# Altium schematic symbol library AltiumTsurkov.SchLib: 13 symbols
Pins are listed as number, name and electrical type; pins without a type are passive.

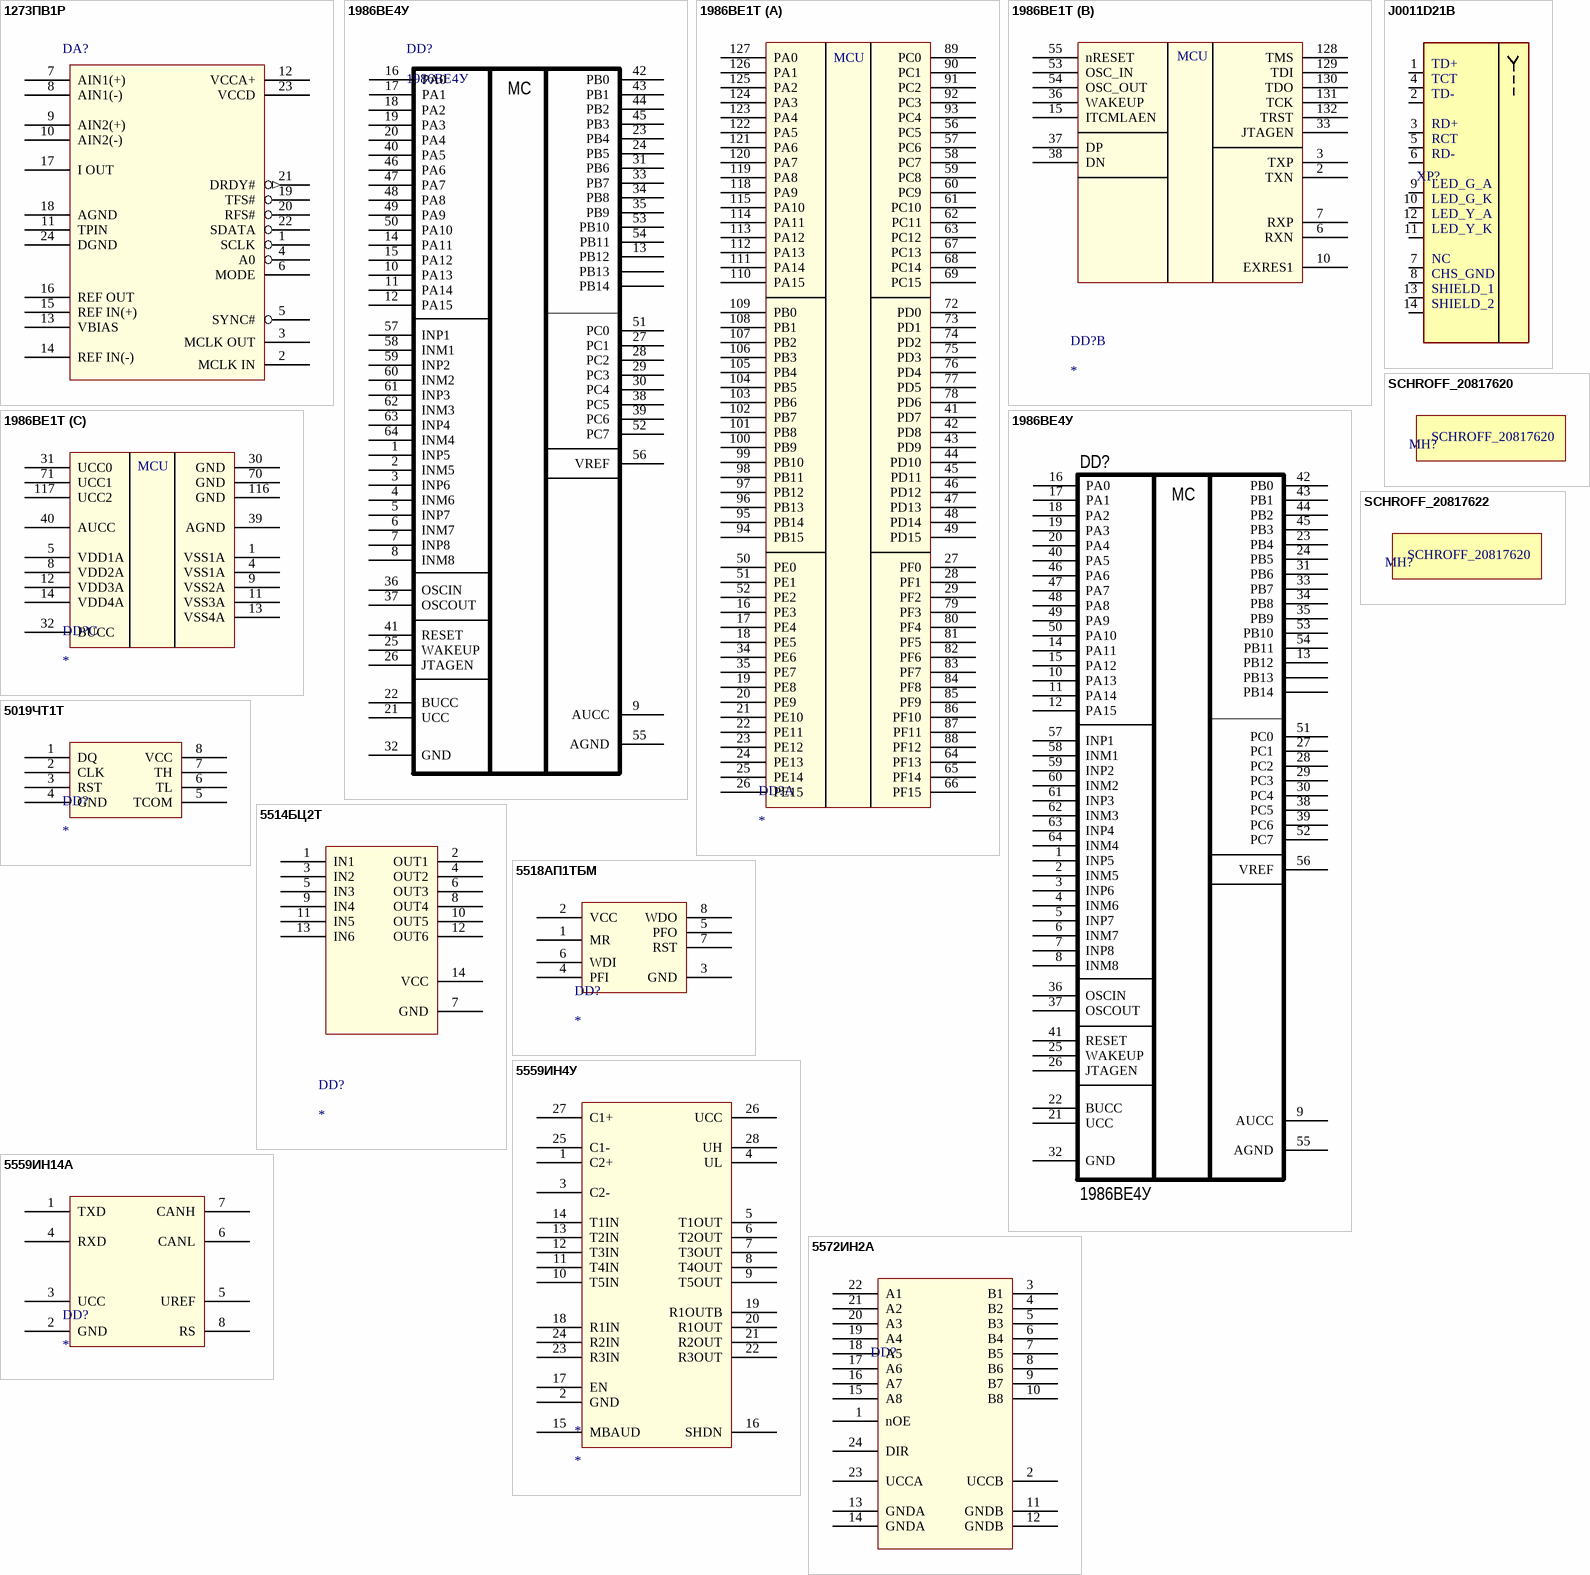
[diagram p0: symbols 1273ПВ1Р to SCHROFF_20817622]

## 1273ПВ1Р
designator DA?, comment DA?  (value not drawn)
1273ПВ1Р
footprint DIP24
pins: 1 SCLK, 2 MCLK IN, 3 MCLK OUT, 4 A0, 5 SYNC#, 6 MODE, 7 AIN1(+), 8 AIN1(-), 9 AIN2(+), 10 AIN2(-), 11 TPIN, 12 VCCA+, 13 VBIAS, 14 REF IN(-), 15 REF IN(+), 16 REF OUT, 17 I OUT, 18 AGND, 19 TFS#, 20 RFS#, 21 DRDY# (out), 22 SDATA, 23 VCCD, 24 DGND

## 1986ВE4У
designator DD?
pins: 1 INP5, 2 INM5, 3 INP6, 4 INM6, 5 INP7, 6 INM7, 7 INP8, 8 INM8, 9 AUCC, 10 PA13, 11 PA14, 12 PA15, 13 PB12, 14 PA11, 15 PA12, 16 PA0, 17 PA1, 18 PA2, 19 PA3, 20 PA4, 21 UCC, 22 BUCC, 23 PB4, 24 PB5, 25 WAKEUP, 26 JTAGEN, 27 PC1, 28 PC2, 29 PC3, 30 PC4, 31 PB6, 32 GND, 33 PB7, 34 PB8, 35 PB9, 36 OSCIN, 37 OSCOUT, 38 PC5, 39 PC6, 40 PA5, 41 RESET, 42 PB0, 43 PB1, 44 PB2, 45 PB3, 46 PA6, 47 PA7, 48 PA8, 49 PA9, 50 PA10, 51 PC0, 52 PC7, 53 PB10, 54 PB11, 55 AGND, 56 VREF, 57 INP1, 58 INM1, 59 INP2, 60 INM2, 61 INP3, 62 INM3, 63 INP4, 64 INM4, ?1 PB13, ?2 PB14
text: MC

## 1986ВЕ1Т
designator DD?
1986ВЕ1Т
footprint 4229_132_3
part A pins: 16 PE3, 17 PE4, 18 PE5, 19 PE8, 20 PE9, 21 PE10, 22 PE11, 23 PE12, 24 PE13, 25 PE14, 26 PE15, 27 PF0, 28 PF1, 29 PF2, 34 PE6, 35 PE7, 41 PD7, 42 PD8, 43 PD9, 44 PD10, 45 PD11, 46 PD12, 47 PD13, 48 PD14, 49 PD15, 50 PE0, 51 PE1, 52 PE2, 56 PC5, 57 PC6, 58 PC7, 59 PC8, 60 PC9, 61 PC10, 62 PC11, 63 PC12, 64 PF13, 65 PF14, 66 PF15, 67 PC13, 68 PC14, 69 PC15, 72 PD0, 73 PD1, 74 PD2, 75 PD3, 76 PD4, 77 PD5, 78 PD6, 79 PF3, 80 PF4, 81 PF5, 82 PF6, 83 PF7, 84 PF8, 85 PF9, 86 PF10, 87 PF11, 88 PF12, 89 PC0, 90 PC1, 91 PC2, 92 PC3, 93 PC4, 94 PB15, 95 PB14, 96 PB13, 97 PB12, 98 PB11, 99 PB10, 100 PB9, 101 PB8, 102 PB7, 103 PB6, 104 PB5, 105 PB4, 106 PB3, 107 PB2, 108 PB1, 109 PB0, 110 PA15, 111 PA14, 112 PA13, 113 PA12, 114 PA11, 115 PA10, 118 PA9, 119 PA8, 120 PA7, 121 PA6, 122 PA5, 123 PA4, 124 PA3, 125 PA2, 126 PA1, 127 PA0
part B pins: 2 TXN, 3 TXP, 6 RXN, 7 RXP, 10 EXRES1, 15 ITCMLAEN, 33 JTAGEN, 36 WAKEUP, 37 DP, 38 DN, 53 OSC_IN, 54 OSC_OUT, 55 nRESET, 128 TMS, 129 TDI, 130 TDO, 131 TCK, 132 TRST
part C pins: 1 VSS1A, 4 VSS1A, 5 VDD1A, 8 VDD2A, 9 VSS2A, 11 VSS3A, 12 VDD3A, 13 VSS4A, 14 VDD4A, 30 GND, 31 UCC0, 32 BUCC, 39 AGND, 40 AUCC, 70 GND, 71 UCC1, 116 GND, 117 UCC2
part A text: MCU
part B text: MCU
part C text: MCU

## 1986ВЕ4У
designator DD?
pins: 1 INP5, 2 INM5, 3 INP6, 4 INM6, 5 INP7, 6 INM7, 7 INP8, 8 INM8, 9 AUCC, 10 PA13, 11 PA14, 12 PA15, 13 PB12, 14 PA11, 15 PA12, 16 PA0, 17 PA1, 18 PA2, 19 PA3, 20 PA4, 21 UCC, 22 BUCC, 23 PB4, 24 PB5, 25 WAKEUP, 26 JTAGEN, 27 PC1, 28 PC2, 29 PC3, 30 PC4, 31 PB6, 32 GND, 33 PB7, 34 PB8, 35 PB9, 36 OSCIN, 37 OSCOUT, 38 PC5, 39 PC6, 40 PA5, 41 RESET, 42 PB0, 43 PB1, 44 PB2, 45 PB3, 46 PA6, 47 PA7, 48 PA8, 49 PA9, 50 PA10, 51 PC0, 52 PC7, 53 PB10, 54 PB11, 55 AGND, 56 VREF, 57 INP1, 58 INM1, 59 INP2, 60 INM2, 61 INP3, 62 INM3, 63 INP4, 64 INM4, ?1 PB13, ?2 PB14
text: MC

## 5019ЧТ1Т
designator DD?
footprint DIP8
pins: 1 DQ, 2 CLK, 3 RST, 4 GND, 5 TCOM, 6 TL, 7 TH, 8 VCC

## 5514БЦ2Т
designator DD?
footprint 401.14-15 (CFP, 14-Leads, Body 7,4x5,1mm (max), Pitch 1,27mm, IPC Medium Density)
pins: 1 IN1, 2 OUT1, 3 IN2, 4 OUT2, 5 IN3, 6 OUT3, 7 GND, 8 OUT4, 9 IN4, 10 OUT5, 11 IN5, 12 OUT6, 13 IN6, 14 VCC

## 5518АП1ТБМ
designator DD?
pins: 1 MR, 2 VCC, 3 GND, 4 PFI, 5 PFO, 6 WDI, 7 RST, 8 WDO

## 5559ИН4У
designator *
5559ИН4
footprint Н09.28-1В
pins: 1 C2+, 2 GND, 3 C2-, 4 UL, 5 T1OUT, 6 T2OUT, 7 T3OUT, 8 T4OUT, 9 T5OUT, 10 T5IN, 11 T4IN, 12 T3IN, 13 T2IN, 14 T1IN, 15 MBAUD, 16 SHDN, 17 EN, 18 R1IN, 19 R1OUTB, 20 R1OUT, 21 R2OUT, 22 R3OUT, 23 R3IN, 24 R2IN, 25 C1-, 26 UCC, 27 C1+, 28 UH

## 5559ИН14А
designator DD?
footprint Н02.8-1В
pins: 1 TXD, 2 GND, 3 UCC, 4 RXD, 5 UREF, 6 CANL, 7 CANH, 8 RS

## 5572ИН2А
designator DD?, comment DD?  (value not drawn)
footprint H06.24-1B
pins: 1 nOE, 2 UCCB, 3 В1, 4 В2, 5 В3, 6 В4, 7 В5, 8 В6, 9 В7, 10 В8, 11 GNDB, 12 GNDB, 13 GNDA, 14 GNDA, 15 А8, 16 А7, 17 А6, 18 А5, 19 А4, 20 А3, 21 А2, 22 А1, 23 UCCA, 24 DIR

## J0011D21B
designator XP?, comment XP?  (value not drawn)
footprint J0006D21BNL
pins: 1, 2, 3, 4, 5, 6, 7, 8, 9, 10, 11, 12, 13, 14
text: TD+; TCT; TD-; RD+; RCT; RD-; LED_G_A; LED_G_K; LED_Y_A; LED_Y_K; NC; CHS_GND; SHIELD_1; SHIELD_2

## SCHROFF_20817620
designator MH?, comment MH?  (value not drawn)
footprint SCHROFF_20817620

## SCHROFF_20817622
designator MH?, comment MH?  (value not drawn)
footprint SCHROFF_20817622
text: SCHROFF_20817620